# Altium footprint library Package_TO_SOT_SMD.PcbLib: 125 footprints (part 4 of 8)
Each footprint in its own frame and in the unit in brackets; x right, y up, seen from the top. Pads: shape width x height; smd on the part's side, far side on the other; paste and mask are expansions set on the pad; w line width, h text height; cw(c..) or ccw(c..) is an arc to the next point about the centre after c.
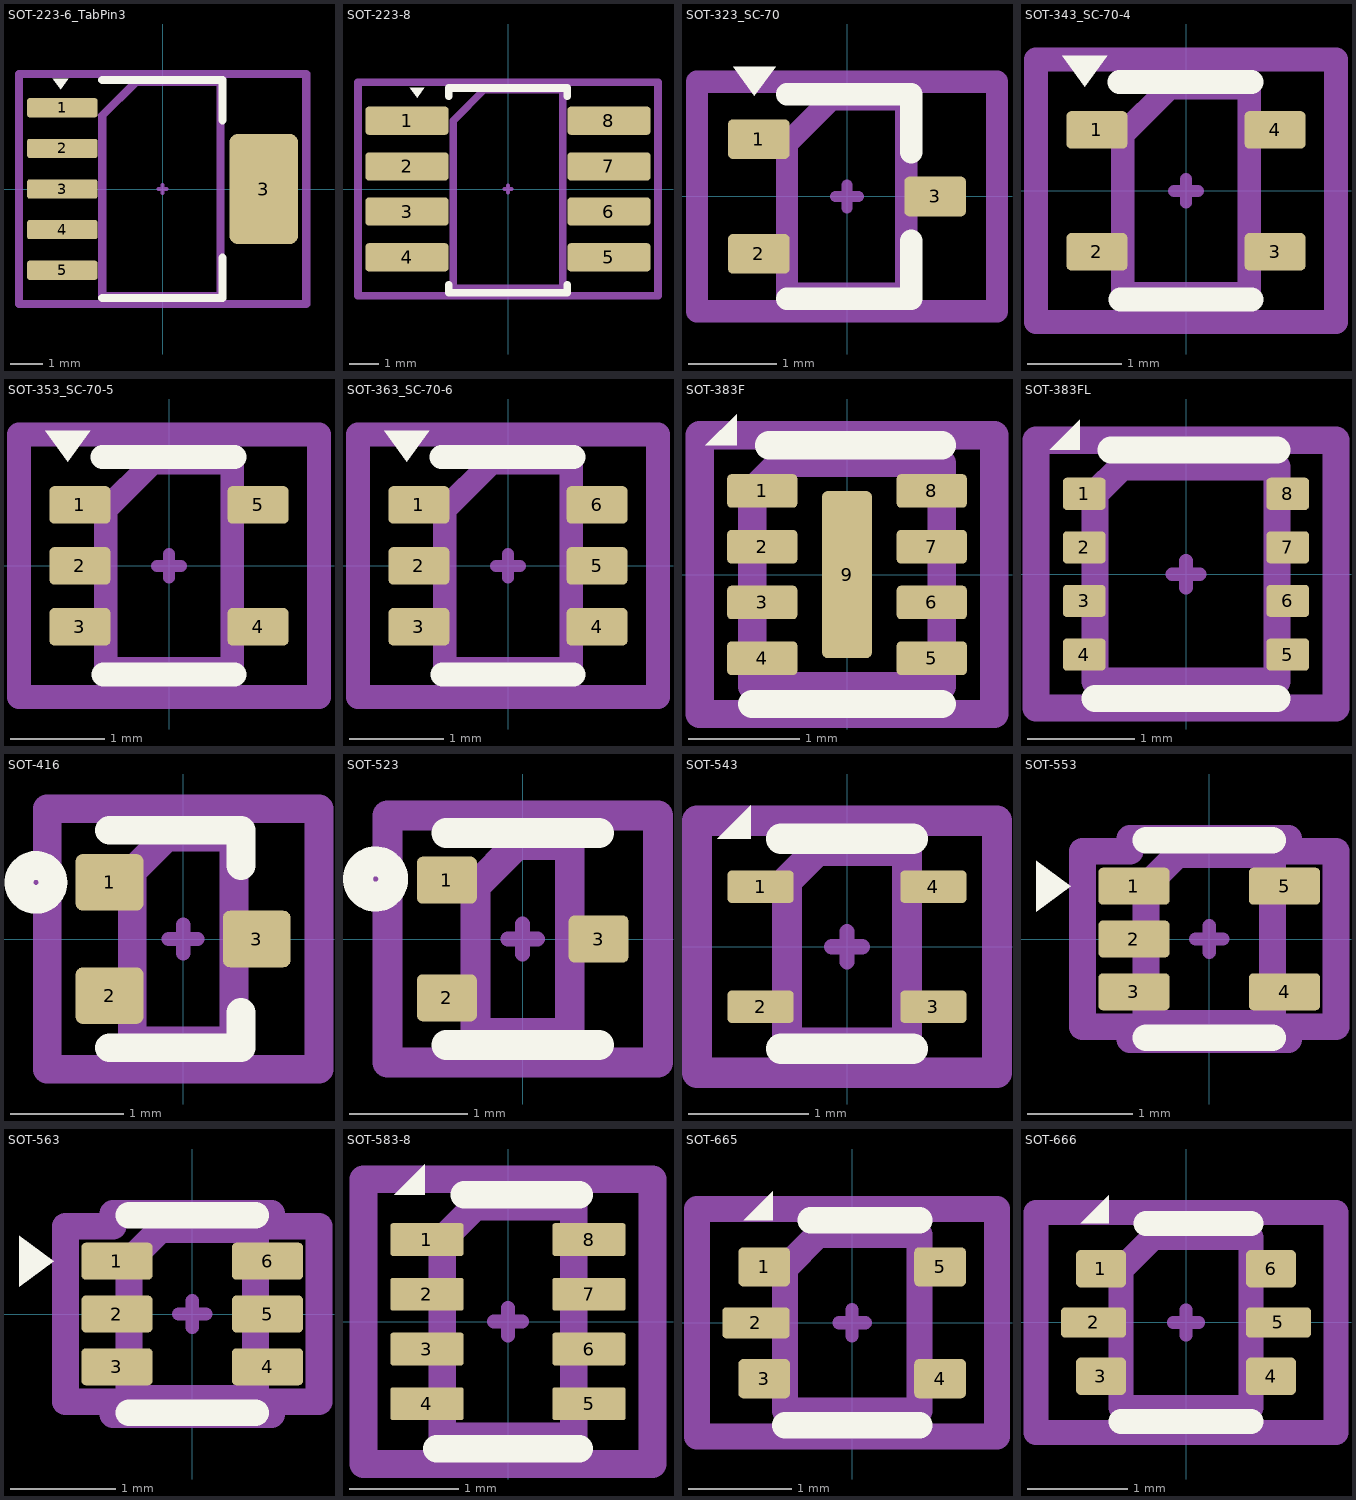
[diagram p3: the footprints below, top view; thin cyan lines are the x and y axes]

## SOT-223-6_TabPin3 [mm] "SOT-223-6_TabPin3"
pads (6):
  rrect25% 2.2x0.6 smd: 1(-3.137,2.54) 2(-3.137,1.27) 3(-3.137,0) 4(-3.137,-1.27) 5(-3.137,-2.54)
  rrect25% 2.15x3.45 smd: 3(3.163,0)
F.SilkS:
  region: -3.19,3.12 -3.43,3.45 -2.95,3.45
  lines w0.254: -1.887,-3.41 1.873,-3.41 1.873,-2.15 ; -1.887,3.41 1.873,3.41 1.873,2.15
Top Component Center:
  lines w0.127: -0.127,0 0.127,0 ; 0,-0.127 0,0.127
Top Assembly:
  lines w0.254: -1.887,-3.35 -1.887,2.3 -0.837,3.35 1.813,3.35 1.813,-3.35 -1.887,-3.35
Top Courtyard:
  lines w0.254: -4.49,-3.6 -4.49,3.6 4.49,3.6 4.49,-3.6 -4.49,-3.6
Top Designator:
  text ".Designator" at -3.432,-0.345 h1.52

## SOT-223-8 [mm] "SOT-223-8"
pads (8):
  rrect25% 2.8x0.95 smd: 1(-3.4,2.3) 2(-3.4,0.76) 3(-3.4,-0.76) 4(-3.4,-2.3) 5(3.4,-2.3) 6(3.4,-0.76) 7(3.4,0.76) 8(3.4,2.3)
F.SilkS:
  region: -3.063,3.08 -3.303,3.41 -2.822,3.41
  lines w0.254: -2,-3.23 -2,-3.5 2,-3.5 2,-3.23 ; -2,3.13 -2,3.4 2,3.4 2,3.13
Top Component Center:
  lines w0.127: -0.127,0 0.127,0 ; 0,-0.127 0,0.127
Top Assembly:
  lines w0.254: -1.85,-3.35 1.85,-3.35 1.85,3.35 -0.8,3.35 -1.85,2.3 -1.85,-3.35
Top Courtyard:
  lines w0.254: -5.05,-3.6 5.05,-3.6 5.05,3.6 -5.05,3.6 -5.05,-3.6
Top Designator:
  text ".Designator" at -3.432,-0.345 h1.52
3D body "SOT-223-8.step": height 1.8, standoff 0, extent -3.5,-3.25 3.5,3.25

## SOT-323_SC-70 [mm] "SOT-323_SC-70"
pads (3):
  rrect25% 0.7x0.45 smd: 1(-1,0.65) 2(-1,-0.65) 3(1,0)
F.SilkS:
  region: -1.05,1.14 -1.29,1.47 -0.81,1.47
  lines w0.254: -0.68,-1.16 0.73,-1.16 0.73,-0.5 ; -0.68,1.16 0.73,1.16 0.73,0.5
Top Component Center:
  lines w0.127: -0.127,0 0.127,0 ; 0,-0.127 0,0.127
Top Assembly:
  lines w0.254: -0.68,-1.1 -0.68,0.6 -0.18,1.1 0.67,1.1 0.67,-1.1 -0.68,-1.1
Top Courtyard:
  lines w0.254: -1.7,-1.3 -1.7,1.3 1.7,1.3 1.7,-1.3 -1.7,-1.3
Top Designator:
  text ".Designator" at -2.253,-0.226 h1
3D body "SOT-323_SC-70.step": height 1.05, standoff 0, extent -1,-1 1,1

## SOT-343_SC-70-4 [mm] "SOT-343_SC-70-4"
pads (4):
  rrect25% 0.65x0.4 smd: 1(-0.95,0.65) 2(-0.95,-0.65) 3(0.95,-0.65) 4(0.95,0.65)
F.SilkS:
  region: -1.08,1.11 -1.32,1.44 -0.84,1.44
  lines w0.254: -0.71,1.16 0.7,1.16 ; -0.7,-1.16 0.7,-1.16
Top Component Center:
  lines w0.127: -0.127,0 0.127,0 ; 0,-0.127 0,0.127
Top Assembly:
  lines w0.254: -0.675,-1.1 -0.675,0.6 -0.175,1.1 0.675,1.1 0.675,-1.1 -0.675,-1.1
Top Courtyard:
  lines w0.254: -1.6,-1.4 -1.6,1.4 1.6,1.4 1.6,-1.4 -1.6,-1.4
Top Designator:
  text ".Designator" at -2.253,-0.226 h1
3D body "SOT-343_SC-70-4.step": height 1.05, standoff 0, extent -1,-1 1,1

## SOT-353_SC-70-5 [mm] "SOT-353_SC-70-5"
pads (5):
  rrect25% 0.65x0.4 smd: 1(-0.95,0.65) 2(-0.95,0) 3(-0.95,-0.65) 4(0.95,-0.65) 5(0.95,0.65)
F.SilkS:
  region: -1.08,1.11 -1.32,1.44 -0.84,1.44
  lines w0.254: -0.71,1.16 0.7,1.16 ; -0.7,-1.16 0.7,-1.16
Top Component Center:
  lines w0.127: -0.127,0 0.127,0 ; 0,-0.127 0,0.127
Top Assembly:
  lines w0.254: -0.675,-1.1 -0.675,0.6 -0.175,1.1 0.675,1.1 0.675,-1.1 -0.675,-1.1
Top Courtyard:
  lines w0.254: -1.6,-1.4 -1.6,1.4 1.6,1.4 1.6,-1.4 -1.6,-1.4
Top Designator:
  text ".Designator" at -2.253,-0.226 h1
3D body "SOT-353_SC-70-5.step": height 1.05, standoff 0, extent -1,-1 1,1

## SOT-363_SC-70-6 [mm] "SOT-363_SC-70-6"
pads (6):
  rrect25% 0.65x0.4 smd: 1(-0.95,0.65) 2(-0.95,0) 3(-0.95,-0.65) 4(0.95,-0.65) 5(0.95,0) 6(0.95,0.65)
F.SilkS:
  region: -1.08,1.11 -1.32,1.44 -0.84,1.44
  lines w0.254: -0.71,1.16 0.7,1.16 ; -0.7,-1.16 0.7,-1.16
Top Component Center:
  lines w0.127: -0.127,0 0.127,0 ; 0,-0.127 0,0.127
Top Assembly:
  lines w0.254: -0.675,-1.1 -0.675,0.6 -0.175,1.1 0.675,1.1 0.675,-1.1 -0.675,-1.1
Top Courtyard:
  lines w0.254: -1.6,-1.4 -1.6,1.4 1.6,1.4 1.6,-1.4 -1.6,-1.4
Top Designator:
  text ".Designator" at -2.253,-0.226 h1
3D body "SOT-363_SC-70-6.step": height 1.05, standoff 0, extent -1,-1 1,1

## SOT-383F [mm] "SOT-383F"
pads (9):
  rrect25% 0.63x0.3 smd: 1(-0.76,0.75) 2(-0.76,0.25) 3(-0.76,-0.25) 4(-0.76,-0.75) 5(0.76,-0.75) 6(0.76,-0.25) 7(0.76,0.25) 8(0.76,0.75)
  rrect25% 0.45x1.5 smd: 9(0,0)
F.SilkS:
  region: -0.99,1.16 -1.27,1.16 -0.99,1.44
  lines w0.254: -0.85,-1.16 0.85,-1.16 ; -0.7,1.16 0.85,1.16
Top Component Center:
  lines w0.127: -0.127,0 0.127,0 ; 0,-0.127 0,0.127
Top Assembly:
  lines w0.254: -0.85,-1 -0.85,0.75 -0.6,1 0.85,1 0.85,-1 -0.85,-1
Top Courtyard:
  lines w0.254: -1.32,-1.25 -1.32,1.25 1.32,1.25 1.32,-1.25 -1.32,-1.25
Top Designator:
  text ".Designator" at -2.253,-0.226 h1
3D body "SOT-383F.step": height 0.52, standoff 0, extent -0.8,-1.04 0.8,1.04

## SOT-383FL [mm] "SOT-383FL"
pads (8):
  rrect25% 0.4x0.3 smd: 1(-0.95,0.75) 2(-0.95,0.25) 3(-0.95,-0.25) 4(-0.95,-0.75) 5(0.95,-0.75) 6(0.95,-0.25) 7(0.95,0.25) 8(0.95,0.75)
F.SilkS:
  region: -0.99,1.16 -1.27,1.16 -0.99,1.44
  lines w0.254: -0.85,-1.16 0.85,-1.16 ; -0.7,1.16 0.85,1.16
Top Component Center:
  lines w0.127: -0.127,0 0.127,0 ; 0,-0.127 0,0.127
Top Assembly:
  lines w0.254: -0.6,1 -0.85,0.75 -0.85,-1 0.85,-1 0.85,1 ; -0.6,1 0.85,1 ; -0.6,1 0.85,1
Top Courtyard:
  lines w0.254: -1.4,-1.25 -1.4,1.25 1.4,1.25 1.4,-1.25 -1.4,-1.25
Top Designator:
  text ".Designator" at -2.253,-0.226 h1
3D body "SOT-383FL.step": height 0.52, standoff 0, extent -0.8,-1.04 0.8,1.04

## SOT-416 [mm] "SOT-416"
pads (3):
  rrect25% 0.6x0.5 smd: 1(-0.65,0.5) 2(-0.65,-0.5) 3(0.65,0)
F.SilkS:
  circle w0.254: c-1.3,0.5 r0.15
  lines w0.254: -0.65,-0.96 0.51,-0.96 0.51,-0.65 ; -0.65,0.96 0.51,0.96 0.51,0.65
Top Component Center:
  lines w0.127: -0.127,0 0.127,0 ; 0,-0.127 0,0.127
Top Assembly:
  lines w0.254: -0.45,-0.9 -0.45,0.6 -0.15,0.9 0.45,0.9 0.45,-0.9 -0.45,-0.9
Top Courtyard:
  lines w0.254: -1.2,-1.15 -1.2,1.15 1.2,1.15 1.2,-1.15 -1.2,-1.15
Top Designator:
  text ".Designator" at -2.253,-0.226 h1

## SOT-523 [mm] "SOT-523"
pads (3):
  rrect25% 0.51x0.4 smd: 1(-0.645,0.5) 2(-0.645,-0.5) 3(0.645,0)
F.SilkS:
  circle w0.254: c-1.25,0.51 r0.15
  lines w0.254: -0.65,-0.9 0.65,-0.9 ; -0.65,0.9 0.65,0.9
Top Component Center:
  lines w0.127: -0.127,0 0.127,0 ; 0,-0.127 0,0.127
Top Assembly:
  lines w0.254: -0.4,-0.8 -0.4,0.45 -0.05,0.8 0.4,0.8 0.4,-0.8 -0.4,-0.8
Top Courtyard:
  lines w0.254: -1.15,-1.05 -1.15,1.05 1.15,1.05 1.15,-1.05 -1.15,-1.05
Top Designator:
  text ".Designator" at -2.253,-0.226 h1

## SOT-543 [mm] "SOT-543"
pads (4):
  rrect25% 0.55x0.27 smd: 1(-0.72,0.5) 2(-0.72,-0.5) 3(0.72,-0.5) 4(0.72,0.5)
F.SilkS:
  region: -0.8,0.9 -1.08,0.9 -0.8,1.18
  lines w0.254: -0.55,-0.85 0.55,-0.85 ; -0.55,0.9 0.55,0.9
Top Component Center:
  lines w0.127: -0.127,0 0.127,0 ; 0,-0.127 0,0.127
Top Assembly:
  lines w0.254: -0.5,-0.8 -0.5,0.55 -0.25,0.8 0.5,0.8 0.5,-0.8 -0.5,-0.8
Top Courtyard:
  lines w0.254: -1.25,-1.05 -1.25,1.05 1.25,1.05 1.25,-1.05 -1.25,-1.05
Top Designator:
  text ".Designator" at -2.253,-0.226 h1
3D body "SOT-543.step": height 0.55, standoff 0, extent -0.8,-0.8 0.8,0.8

## SOT-553 [mm] "SOT-553"
pads (5):
  rrect25% 0.675x0.35 smd: 1(-0.713,0.5) 2(-0.713,0) 3(-0.713,-0.5) 4(0.713,-0.5) 5(0.713,0.5)
F.SilkS:
  region: -1.31,0.5 -1.64,0.26 -1.64,0.74
  lines w0.254: -0.6,-0.935 0,-0.935 0.6,-0.935 ; -0.6,0.935 0,0.935 0.6,0.935
Top Component Center:
  lines w0.127: -0.127,0 0.127,0 ; 0,-0.127 0,0.127
Top Assembly:
  lines w0.254: -0.6,-0.8 -0.6,0.5 -0.3,0.8 0.6,0.8 0.6,-0.8 -0.6,-0.8
Top Courtyard:
  lines w0.254: -1.2,-0.83 -1.2,0.83 -0.75,0.83 -0.75,0.95 0.75,0.95 0.75,0.83 1.2,0.83 1.2,-0.83 0.75,-0.83 0.75,-0.95 -0.75,-0.95 -0.75,-0.83 -1.2,-0.83
Top Designator:
  text ".Designator" at -2.253,-0.226 h1
3D body "SOT-553.step": height 0.63, standoff 0, extent -0.8,-0.8 0.8,0.8

## SOT-563 [mm] "SOT-563"
pads (6):
  rrect25% 0.675x0.35 smd: 1(-0.713,0.5) 2(-0.713,0) 3(-0.713,-0.5) 4(0.713,-0.5) 5(0.713,0) 6(0.713,0.5)
F.SilkS:
  region: -1.31,0.5 -1.64,0.26 -1.64,0.74
  lines w0.254: -0.6,-0.935 0,-0.935 0.6,-0.935 ; -0.6,0.935 0,0.935 0.6,0.935
Top Component Center:
  lines w0.127: -0.127,0 0.127,0 ; 0,-0.127 0,0.127
Top Assembly:
  lines w0.254: -0.6,-0.8 -0.6,0.5 -0.3,0.8 0.6,0.8 0.6,-0.8 -0.6,-0.8
Top Courtyard:
  lines w0.254: -1.2,-0.83 -1.2,0.83 -0.75,0.83 -0.75,0.95 0.75,0.95 0.75,0.83 1.2,0.83 1.2,-0.83 0.75,-0.83 0.75,-0.95 -0.75,-0.95 -0.75,-0.83 -1.2,-0.83
Top Designator:
  text ".Designator" at -2.253,-0.226 h1
3D body "SOT-563.step": height 0.63, standoff 0, extent -0.8,-0.8 0.8,0.8

## SOT-583-8 [mm] "SOT-583-8"
pads (8):
  rrect17% 0.67x0.3 smd: 1(-0.74,0.75) 2(-0.74,0.25) 3(-0.74,-0.25) 4(-0.74,-0.75) 5(0.74,-0.75) 6(0.74,-0.25) 7(0.74,0.25) 8(0.74,0.75)
F.SilkS:
  region: -0.76,1.16 -1.04,1.16 -0.76,1.44
  lines w0.254: -0.65,-1.16 0.65,-1.16 ; -0.4,1.16 0.65,1.16
Top Component Center:
  lines w0.127: -0.127,0 0.127,0 ; 0,-0.127 0,0.127
Top Assembly:
  lines w0.254: -0.6,-1.05 -0.6,0.75 -0.3,1.05 0.6,1.05 0.6,-1.05 -0.6,-1.05
Top Courtyard:
  lines w0.254: -1.32,-1.3 -1.32,1.3 1.32,1.3 1.32,-1.3 -1.32,-1.3
Top Designator:
  text ".Designator" at -2.253,-0.226 h1
3D body "SOT-583-8.step": height 0.69, standoff 0, extent -0.8,-1.05 0.8,1.05

## SOT-665 [mm] "SOT-665"
pads (5):
  rrect25% 0.5x0.38 smd: 1(-0.85,0.54) 3(-0.85,-0.54) 4(0.85,-0.54) 5(0.85,0.54)
  rrect25% 0.65x0.3 smd: 2(-0.93,0)
F.SilkS:
  region: -0.77,0.99 -1.05,0.99 -0.77,1.27
  lines w0.254: -0.65,-0.99 0.65,-0.99 ; -0.4,0.99 0.65,0.99
Top Component Center:
  lines w0.127: -0.127,0 0.127,0 ; 0,-0.127 0,0.127
Top Assembly:
  lines w0.254: -0.65,0.51 -0.65,-0.85 0.65,-0.85 0.65,0.85 -0.33,0.85 -0.65,0.53
Top Courtyard:
  lines w0.254: -1.5,-1.1 1.4,-1.1 1.4,1.1 -1.5,1.1 -1.5,-1.1
Top Designator:
  text ".Designator" at -2.253,-0.226 h1
3D body "SOT-665.step": height 0.55, standoff 0, extent -0.8,-0.8 0.8,0.8

## SOT-666 [mm] "SOT-666"
pads (6):
  rrect25% 0.5x0.375 smd: 1(-0.85,0.537) 3(-0.85,-0.537) 4(0.85,-0.537) 6(0.85,0.537)
  rrect25% 0.65x0.3 smd: 2(-0.925,0) 5(0.925,0)
F.SilkS:
  region: -0.77,0.99 -1.05,0.99 -0.77,1.27
  lines w0.254: -0.65,-0.99 0.65,-0.99 ; -0.4,0.99 0.65,0.99
Top Component Center:
  lines w0.127: -0.127,0 0.127,0 ; 0,-0.127 0,0.127
Top Assembly:
  lines w0.254: -0.33,0.85 0.65,0.85 ; -0.33,0.85 0.65,0.85 ; -0.33,0.85 -0.65,0.53 -0.65,-0.85 0.65,-0.85 0.65,0.85
Top Courtyard:
  lines w0.254: -1.5,-1.1 1.5,-1.1 1.5,1.1 -1.5,1.1 -1.5,-1.1
Top Designator:
  text ".Designator" at -2.253,-0.226 h1
3D body "SOT-666.step": height 0.55, standoff 0, extent -0.8,-0.8 0.8,0.8